# EAGLE library part MPL115A2 (library std-components-pir)
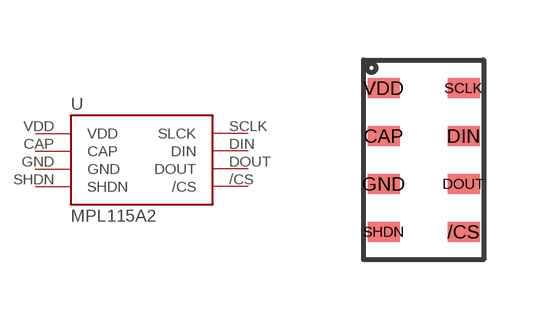
[diagram p2: symbol with the pads of MPL115A2; footprint MPL115A2]

Designator prefix -

## MPL115A2_I2C  [MPL115A2]
/CS  /CS  in
CAP  CAP  pwr
DIN  DIN
DOUT  DOUT  nc
GND  GND  pwr
SCLK  SLCK
SHDN  SHDN  in
VDD  VDD  pwr

## Footprint MPL115A2 (pad centres in mm)
smd 0.8 x 0.5: /CS 2.5,0.7; CAP 0.5,3.1; DIN 2.5,3.1; DOUT 2.5,1.9; GND 0.5,1.9; SCLK 2.5,4.3; SHDN 0.5,0.7; VDD 0.5,4.3